# Altium schematic symbol library CTMBLib.SchLib: 5 symbols
Pins are listed as number, name and electrical type; pins without a type are passive.

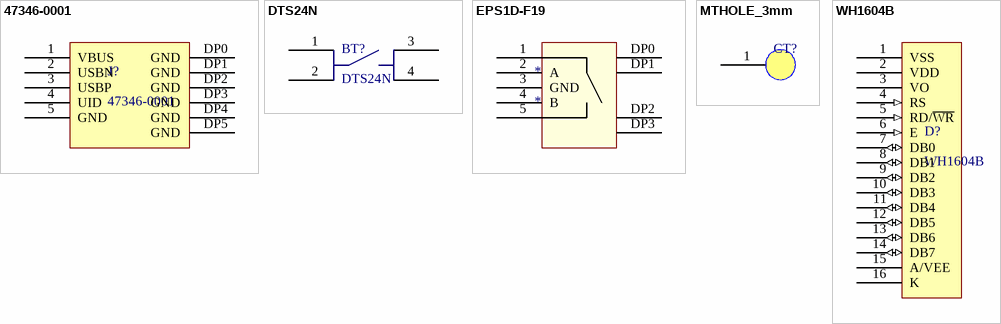
[diagram p0: symbols 47346-0001 to WH1604B]

## 47346-0001
designator J?
Micro USB Molex
footprint USB_MICRO
pins: 1 VBUS, 2 USBN, 3 USBP, 4 UID, 5 GND, DP0 GND, DP1 GND, DP2 GND, DP3 GND, DP4 GND, DP5 GND

## DTS24N
designator BT?
footprint DTS24N
pins: 1, 2, 3, 4

## EPS1D-F19
designator *
footprint EPS1D-F19
pins: 1, 2 A, 3 GND, 4 B, 5, DP0 6, DP1 6, DP2 6, DP3 6

## MTHOLE_3mm
designator CT?  (value not drawn)
footprint MTHOLE
pins: 1

## WH1604B
designator D?
Value: WH1604B
footprint WH1604B
footprint WH1604A
pins: 1 VSS (power), 2 VDD (power), 3 VO (power), 4 RS (in), 5 RD/~{WR} (in), 6 E (in), 7 DB0 (io), 8 DB1 (io), 9 DB2 (io), 10 DB3 (io), 11 DB4 (io), 12 DB5 (io), 13 DB6 (io), 14 DB7 (io), 15 A/VEE (power), 16 K (power)